# Altium schematic symbol library CC0402JRNPO9BN220.SchLib: 1 symbol
Pins are listed as number, name and electrical type; pins without a type are passive.

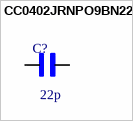
[diagram p0: symbol CC0402JRNPO9BN220]

## CC0402JRNPO9BN220
designator C?  value 22p  (hidden comment: *)
22 pF Â±5% 50V Ceramic Capacitor C0G, NP0 0402 (1005 Metric); MF: Yageo; MP: CC0402JRNPO9BN220; SnapEDA_Link: https://www.snapeda.com/parts/CC0402JRNPO9BN220/Yageo/view-part/?ref=snap; Package: 0402 Yageo; Check_prices: https://www.snapeda.com/parts/CC0402JRNPO9BN220/Yageo/view-part/?ref=eda; LCSC Part Number: C106203
footprint CAPC1005X55N
pins: 1, 2